# Altium footprint library KX1_DB.PcbLib: 18 footprints (part 1 of 2)
Each footprint in its own frame and in the unit in brackets; x right, y up, seen from the top. Pads: shape width x height; smd on the part's side, far side on the other; paste and mask are expansions set on the pad; w line width, h text height; cw(c..) or ccw(c..) is an arc to the next point about the centre after c.
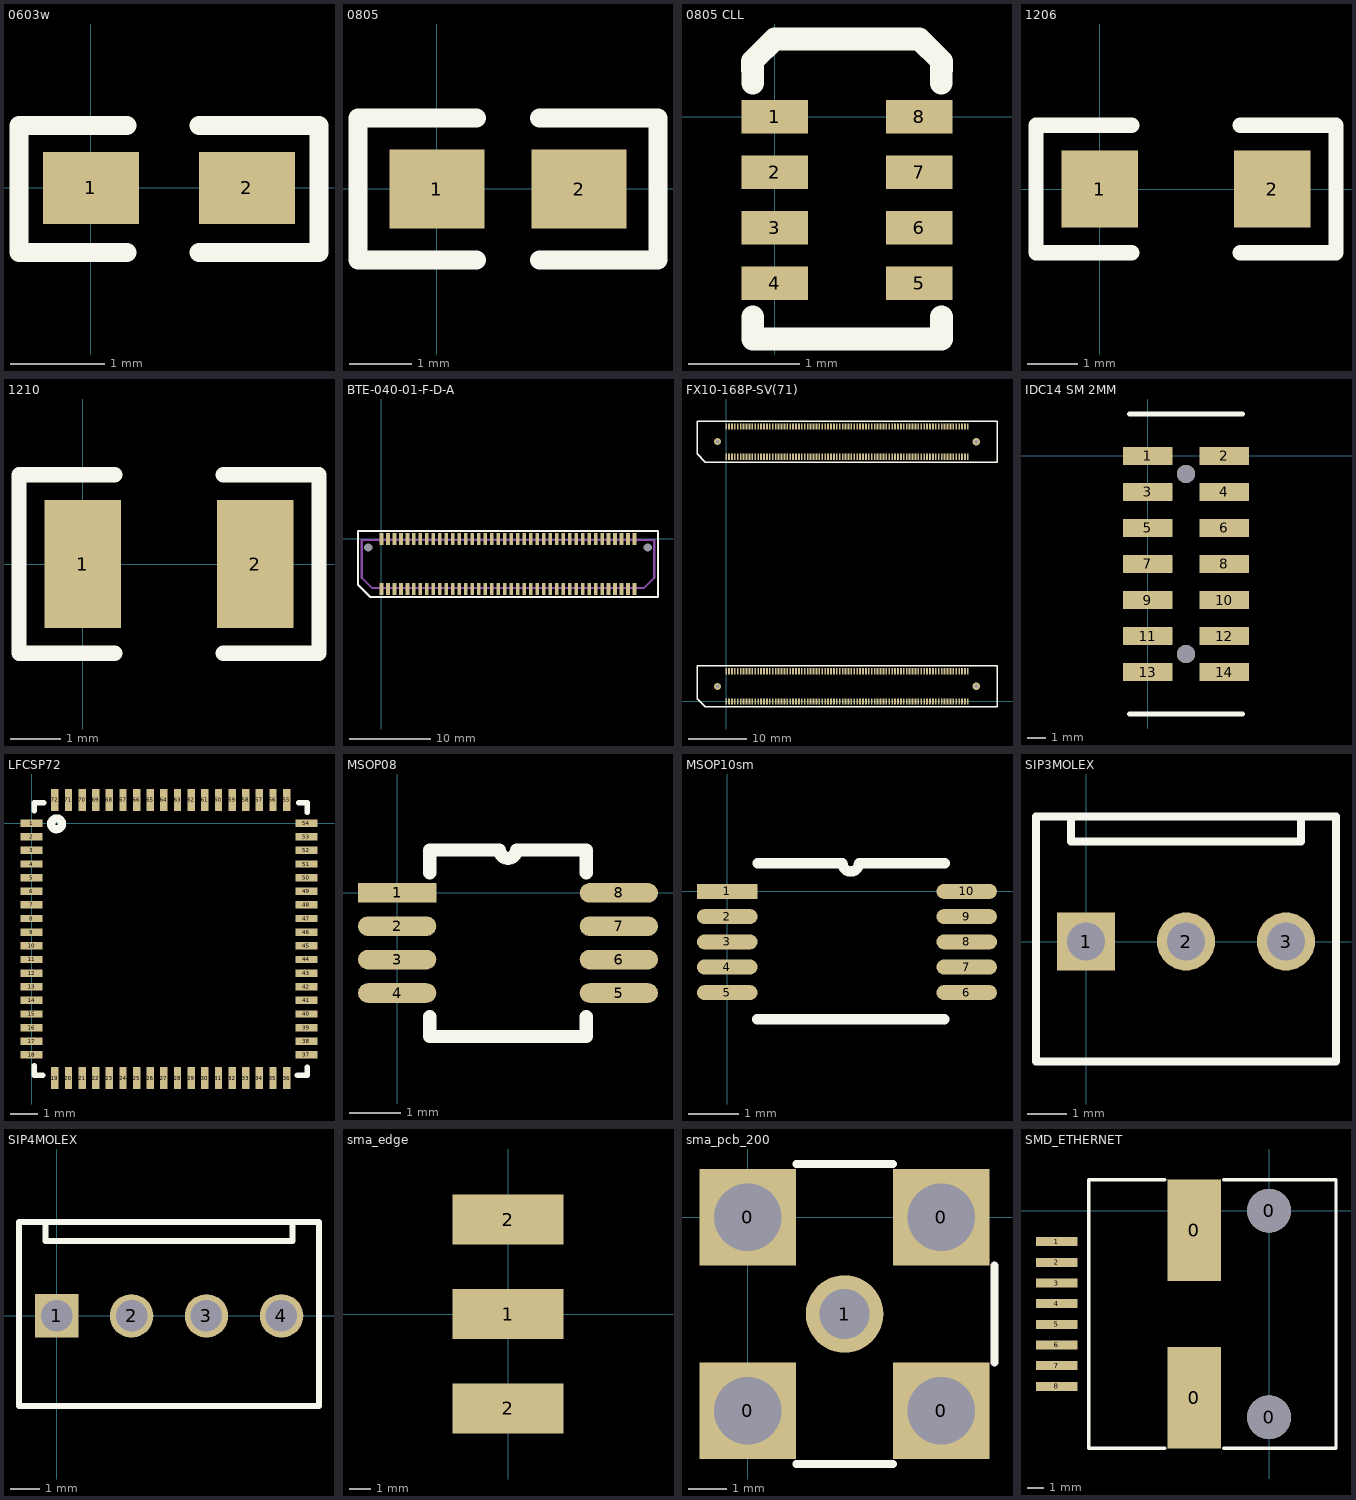
[diagram p0: the footprints below, top view; thin cyan lines are the x and y axes]

## 0603w [mil]
pads (2):
  rect 40x30 smd: 1(0,0) 2(65,0)
Top Overlay:
  lines w8: 15,-27 -30,-27 -30,26 15,26 ; 45,-27 95,-27 95,26 45,26

## 0805 [mil]
pads (2):
  rect 60x50 smd: 1(0,0) 2(90,0)
Top Overlay:
  lines w12: 25,-45 -50,-45 -50,45 25,45 ; 65,-45 140,-45 140,45 65,45

## 0805 CLL [mm]
pads (8):
  rect 0.6x0.3 smd: 1(0,0) 2(0,-0.5) 3(0,-1) 4(0,-1.5) 5(1.3,-1.5) 6(1.3,-1) 7(1.3,-0.5) 8(1.3,0)
Top Overlay:
  lines w0.203: -0.2,0.5 -0.198,0.3 ; -0.198,-1.8 -0.198,-2 1.5,-2 ; -0.198,0.5 0,0.698 1.3,0.698 1.498,0.5 ; 1.4,-2 1.5,-2 ; 1.498,0.3 1.5,0.5 ; 1.5,-1.8 1.5,-2

## 1206 [mil]
pads (2):
  rect 60x60 smd: 1(0,0) 2(135,0)
Top Overlay:
  lines w12: 25,-50 -50,-50 -50,50 25,50 ; 110,-50 185,-50 185,50 110,50

## 1210 [mil]
pads (2):
  rect 60x100 smd: 1(0,0) 2(135,0)
Top Overlay:
  lines w12: 25,-70 -50,-70 -50,70 25,70 ; 110,-70 185,-70 185,70 110,70

## BTE-040-01-F-D-A [mil]
pads (82):
  rect 18x57 smd mask+3: 1(0,0) 2(0,-243) 3(31.5,0) 4(31.5,-243) 5(63,0) 6(63,-243) 7(94.5,0) 8(94.5,-243) 9(126,0) 10(126,-243) 11(157.5,0) 12(157.5,-243) 13(189,0) 14(189,-243) 15(220.5,0) 16(220.5,-243) 17(252,0) 18(252,-243) 19(283.5,0) 20(283.5,-243) 21(315,0) 22(315,-243) 23(346.5,0) 24(346.5,-243) 25(378,0) 26(378,-243) 27(409.5,0) 28(409.5,-243) 29(441,0) 30(441,-243) 31(472.5,0) 32(472.5,-243) 33(504,0) 34(504,-243) 35(535.5,0) 36(535.5,-243) 37(567,0) 38(567,-243) 39(598.5,0) 40(598.5,-243) 41(630,0) 42(630,-243) 43(661.5,0) 44(661.5,-243) 45(693,0) 46(693,-243) 47(724.5,0) 48(724.5,-243) 49(756,0) 50(756,-243) 51(787.5,0) 52(787.5,-243) 53(819,0) 54(819,-243) 55(850.5,0) 56(850.5,-243) 57(882,0) 58(882,-243) 59(913.5,0) 60(913.5,-243) 61(945,0) 62(945,-243) 63(976.5,0) 64(976.5,-243) 65(1008,0) 66(1008,-243) 67(1039.5,0) 68(1039.5,-243) 69(1071,0) 70(1071,-243) 71(1102.5,0) 72(1102.5,-243) 73(1134,0) 74(1134,-243) 75(1165.5,0) 76(1165.5,-243) 77(1197,0) 78(1197,-243) 79(1228.5,0) 80(1228.5,-243)
  round 20 hole 40 unplated mask+20: 161(-64.5,-41.5) 162(1293,-41.5)
Top Overlay:
  lines w10: -113.75,-221.5 -53.75,-281.5 1342.25,-281.5 1342.25,-221.5 1342.25,38.5 -113.75,38.5 -113.75,-221.5
Mechanical 2:
  lines w10: -95.5,-189 -95.5,-4 1324,-4 1324,-189 1274,-239 -45.5,-239 -95.5,-189

## FX10-168P-SV(71) [mm]
height 3.5
pads (336):
  rect 0.3x1.1 smd: 1(0,0) 1(0,42) 2(0,5.2) 2(0,47.2) 3(0.5,0) 3(0.5,42) 4(0.5,5.2) 4(0.5,47.2) 5(1,0) 5(1,42) 6(1,5.2) 6(1,47.2) 7(1.5,0) 7(1.5,42) 8(1.5,5.2) 8(1.5,47.2) 9(2,0) 9(2,42) 10(2,5.2) 10(2,47.2) 11(2.5,0) 11(2.5,42) 12(2.5,5.2) 12(2.5,47.2) 13(3,0) 13(3,42) 14(3,5.2) 14(3,47.2) 15(3.5,0) 15(3.5,42) 16(3.5,5.2) 16(3.5,47.2) 17(4,0) 17(4,42) 18(4,5.2) 18(4,47.2) 19(4.5,0) 19(4.5,42) 20(4.5,5.2) 20(4.5,47.2) 21(5,0) 21(5,42) 22(5,5.2) 22(5,47.2) 23(5.5,0) 23(5.5,42) 24(5.5,5.2) 24(5.5,47.2) 25(6,0) 25(6,42) 26(6,5.2) 26(6,47.2) 27(6.5,0) 27(6.5,42) 28(6.5,5.2) 28(6.5,47.2) 29(7,0) 29(7,42) 30(7,5.2) 30(7,47.2) 31(7.5,0) 31(7.5,42) 32(7.5,5.2) 32(7.5,47.2) 33(8,0) 33(8,42) 34(8,5.2) 34(8,47.2) 35(8.5,0) 35(8.5,42) 36(8.5,5.2) 36(8.5,47.2) 37(9,0) 37(9,42) 38(9,5.2) 38(9,47.2) 39(9.5,0) 39(9.5,42) 40(9.5,5.2) 40(9.5,47.2) 41(10,0) 41(10,42) 42(10,5.2) 42(10,47.2) 43(10.5,0) 43(10.5,42) 44(10.5,5.2) 44(10.5,47.2) 45(11,0) 45(11,42) 46(11,5.2) 46(11,47.2) 47(11.5,0) 47(11.5,42) 48(11.5,5.2) 48(11.5,47.2) 49(12,0) 49(12,42) 50(12,5.2) 50(12,47.2) 51(12.5,0) 51(12.5,42) 52(12.5,5.2) 52(12.5,47.2) 53(13,0) 53(13,42) 54(13,5.2) 54(13,47.2) 55(13.5,0) 55(13.5,42) 56(13.5,5.2) 56(13.5,47.2) 57(14,0) 57(14,42) 58(14,5.2) 58(14,47.2) 59(14.5,0) 59(14.5,42) 60(14.5,5.2) 60(14.5,47.2) 61(15,0) 61(15,42) 62(15,5.2) 62(15,47.2) 63(15.5,0) 63(15.5,42) 64(15.5,5.2) 64(15.5,47.2) 65(16,0) 65(16,42) 66(16,5.2) 66(16,47.2) 67(16.5,0) 67(16.5,42) 68(16.5,5.2) 68(16.5,47.2) 69(17,0) 69(17,42) 70(17,5.2) 70(17,47.2) 71(17.5,0) 71(17.5,42) 72(17.5,5.2) 72(17.5,47.2) 73(18,0) 73(18,42) 74(18,5.2) 74(18,47.2) 75(18.5,0) 75(18.5,42) 76(18.5,5.2) 76(18.5,47.2) 77(19,0) 77(19,42) 78(19,5.2) 78(19,47.2) 79(19.5,0) 79(19.5,42) 80(19.5,5.2) 80(19.5,47.2) 81(20,0) 81(20,42) 82(20,5.2) 82(20,47.2) 83(20.5,0) 83(20.5,42) 84(20.5,5.2) 84(20.5,47.2) 85(21,0) 85(21,42) 86(21,5.2) 86(21,47.2) 87(21.5,0) 87(21.5,42) 88(21.5,5.2) 88(21.5,47.2) 89(22,0) 89(22,42) 90(22,5.2) 90(22,47.2) 91(22.5,0) 91(22.5,42) 92(22.5,5.2) 92(22.5,47.2) 93(23,0) 93(23,42) 94(23,5.2) 94(23,47.2) 95(23.5,0) 95(23.5,42) 96(23.5,5.2) 96(23.5,47.2) 97(24,0) 97(24,42) 98(24,5.2) 98(24,47.2) 99(24.5,0) 99(24.5,42) 100(24.5,5.2) 100(24.5,47.2) 101(25,0) 101(25,42) 102(25,5.2) 102(25,47.2) 103(25.5,0) 103(25.5,42) 104(25.5,5.2) 104(25.5,47.2) 105(26,0) 105(26,42) 106(26,5.2) 106(26,47.2) 107(26.5,0) 107(26.5,42) 108(26.5,5.2) 108(26.5,47.2) 109(27,0) 109(27,42) 110(27,5.2) 110(27,47.2) 111(27.5,0) 111(27.5,42) 112(27.5,5.2) 112(27.5,47.2) 113(28,0) 113(28,42) 114(28,5.2) 114(28,47.2) 115(28.5,0) 115(28.5,42) 116(28.5,5.2) 116(28.5,47.2) 117(29,0) 117(29,42) 118(29,5.2) 118(29,47.2) 119(29.5,0) 119(29.5,42) 120(29.5,5.2) 120(29.5,47.2) 121(30,0) 121(30,42) 122(30,5.2) 122(30,47.2) 123(30.5,0) 123(30.5,42) 124(30.5,5.2) 124(30.5,47.2) 125(31,0) 125(31,42) 126(31,5.2) 126(31,47.2) 127(31.5,0) 127(31.5,42) 128(31.5,5.2) 128(31.5,47.2) 129(32,0) 129(32,42) 130(32,5.2) 130(32,47.2) 131(32.5,0) 131(32.5,42) 132(32.5,5.2) 132(32.5,47.2) 133(33,0) 133(33,42) 134(33,5.2) 134(33,47.2) 135(33.5,0) 135(33.5,42) 136(33.5,5.2) 136(33.5,47.2) 137(34,0) 137(34,42) 138(34,5.2) 138(34,47.2) 139(34.5,0) 139(34.5,42) 140(34.5,5.2) 140(34.5,47.2) 141(35,0) 141(35,42) 142(35,5.2) 142(35,47.2) 143(35.5,0) 143(35.5,42) 144(35.5,5.2) 144(35.5,47.2) 145(36,0) 145(36,42) 146(36,5.2) 146(36,47.2) 147(36.5,0) 147(36.5,42) 148(36.5,5.2) 148(36.5,47.2) 149(37,0) 149(37,42) 150(37,5.2) 150(37,47.2) 151(37.5,0) 151(37.5,42) 152(37.5,5.2) 152(37.5,47.2) 153(38,0) 153(38,42) 154(38,5.2) 154(38,47.2) 155(38.5,0) 155(38.5,42) 156(38.5,5.2) 156(38.5,47.2) 157(39,0) 157(39,42) 158(39,5.2) 158(39,47.2) 159(39.5,0) 159(39.5,42) 160(39.5,5.2) 160(39.5,47.2) 161(40,0) 161(40,42) 162(40,5.2) 162(40,47.2) 163(40.5,0) 163(40.5,42) 164(40.5,5.2) 164(40.5,47.2) 165(41,0) 165(41,42) 166(41,5.2) 166(41,47.2) 167(41.5,0) 167(41.5,42) 168(41.5,5.2) 168(41.5,47.2)
via -1.45,44.6 diameter 1.2 hole 0.55
via 42.95,44.6 diameter 1.3 hole 0.56
via 42.95,2.6 diameter 1.3 hole 0.56
via -1.45,2.6 diameter 1.2 hole 0.55
Top Overlay:
  lines w0.254: -5,0.5 -5,6.1 46.5,6.1 46.5,-0.9 -3.6,-0.9 -5,0.5 ; -5,42.5 -3.6,41.1 46.5,41.1 46.5,48.1 -5,48.1 -5,42.5

## IDC14 SM 2MM [mm]
pads (16):
  rect 2.75x1 smd: 1(0,0) 2(4.25,0) 3(0,-2) 4(4.25,-2) 5(0,-4) 6(4.25,-4) 7(0,-6) 8(4.25,-6) 9(0,-8) 10(4.25,-8) 11(0,-10) 12(4.25,-10) 13(0,-12) 14(4.25,-12)
  round 1.016 hole 1.016: ""(2.125,-11) ""(2.125,-1)
Top Overlay:
  lines w0.254: -1.025,-14.325 5.275,-14.325 ; -1.025,2.325 5.275,2.325

## LFCSP72 [mm]
pads (72):
  rect 0.8x0.27 smd: 1(0,0) 2(0,-0.5) 3(0,-1) 4(0,-1.5) 5(0,-2) 6(0,-2.5) 7(0,-3) 8(0,-3.5) 9(0,-4) 10(0,-4.5) 11(0,-5) 12(0,-5.5) 13(0,-6) 14(0,-6.5) 15(0,-7) 16(0,-7.5) 17(0,-8) 18(0,-8.5) 37(10.077,-8.5) 38(10.077,-8) 39(10.077,-7.5) 40(10.077,-7) 41(10.077,-6.5) 42(10.077,-6) 43(10.077,-5.5) 44(10.077,-5) 45(10.077,-4.5) 46(10.077,-4) 47(10.077,-3.5) 48(10.077,-3) 49(10.077,-2.5) 50(10.077,-2) 51(10.077,-1.5) 52(10.077,-1) 53(10.077,-0.5) 54(10.077,0)
  rect 0.27x0.8 smd: 19(0.852,-9.352) 20(1.352,-9.352) 21(1.852,-9.352) 22(2.352,-9.352) 23(2.852,-9.352) 24(3.352,-9.352) 25(3.852,-9.352) 26(4.352,-9.352) 27(4.852,-9.352) 28(5.352,-9.352) 29(5.852,-9.352) 30(6.352,-9.352) 31(6.852,-9.352) 32(7.352,-9.352) 33(7.852,-9.352) 34(8.352,-9.352) 35(8.852,-9.352) 36(9.352,-9.352) 55(9.352,0.852) 56(8.852,0.852) 57(8.352,0.852) 58(7.852,0.852) 59(7.352,0.852) 60(6.852,0.852) 61(6.352,0.852) 62(5.852,0.852) 63(5.352,0.852) 64(4.852,0.852) 65(4.352,0.852) 66(3.852,0.852) 67(3.352,0.852) 68(2.852,0.852) 69(2.352,0.852) 70(1.852,0.852) 71(1.352,0.852) 72(0.852,0.852)
Top Overlay:
  circle w0.3: c0.914,-0.025 r0.2
  lines w0.203: 0.102,-8.9 0.102,-9.25 0.402,-9.25 ; 0.102,0.45 0.102,0.75 0.452,0.75 ; 9.752,-9.25 10.102,-9.25 10.102,-8.95 ; 9.802,0.75 10.102,0.75 10.102,0.4

## MSOP08 [mil]
pads (8):
  rect 60x15 smd: 1(0,0)
  oval 60x15 smd: 2(0,-25.6) 3(0,-51.2) 4(0,-76.8) 5(170,-76.8) 6(170,-51.2) 7(170,-25.6) 8(170,0)
Top Overlay:
  lines w10: 25,-95 25,-110 145,-110 145,-95 ; 25,15.4 25,32.8 78.6,32.8 ccw(c85,32.8) 91.4,32.8 145,32.8 145,15.4

## MSOP10sm [mm]
pads (10):
  rect 1.2x0.3 smd: 1(0,0)
  oval 1.2x0.3 smd: 2(0,-0.5) 3(0,-1) 4(0,-1.5) 5(0,-2.008) 6(4.75,-2.008) 7(4.75,-1.5) 8(4.75,-1) 9(4.75,-0.5) 10(4.75,0)
Top Overlay:
  lines w0.203: 0.597,-2.533 1.316,-2.533 3.591,-2.533 4.31,-2.533 ; 0.607,0.558 1.326,0.558 2.287,0.558 ccw(c2.45,0.558) 2.613,0.558 3.599,0.558 4.318,0.558

## SIP3MOLEX [mil]
pads (3):
  rect 58x58 hole 38: 1(0,0)
  round 58 hole 38: 2(100,0) 3(200,0)
Top Overlay:
  lines w8: -15,125 -15,100 50,100 215,100 215,125 ; -50,-120 250,-120 250,125 -50,125 -50,-120

## SIP4MOLEX [mil]
pads (4):
  rect 58x58 hole 42: 1(0,0)
  round 58 hole 42: 2(100,0) 3(200,0) 4(300,0)
Top Overlay:
  lines w8: -15,125 -15,100 50,100 315,100 315,125 ; -50,-120 -50,125 350,125 350,-120 -50,-120

## sma_edge [mil]
pads (3):
  rect 200x90 smd: 1(0,0)
  rect 200x90 all layers, no hole: 2(0,-170) 2(0,170)

## sma_pcb_200 [mil]
pads (5):
  rect 100x100 hole 70: 0(0,-200) 0(0,0) 0(200,-200) 0(200,0)
  round 80 hole 52: 1(100,-100)
Top Overlay:
  lines w8: 50,-255 150,-255 ; 50,55 150,55 ; 255,-150 255,-50

## SMD_ETHERNET [mil]
pads (12):
  rect 130x245 smd: 0(-181,-452.5) 0(-181,-47.5)
  round 106 hole 106: 0(0,-500) 0(0,0)
  rect 100x22 smd: 1(-514,-75) 2(-514,-125) 3(-514,-175) 4(-514,-225) 5(-514,-275) 6(-514,-325) 7(-514,-375) 8(-514,-425)
Top Overlay:
  lines w8: -252,-575 -436,-575 -436,75 -252,75 ; -110,-575 162,-575 162,75 -110,75